# EAGLE library part ATTINY84 (library Eagle3D-IC_Atmel)
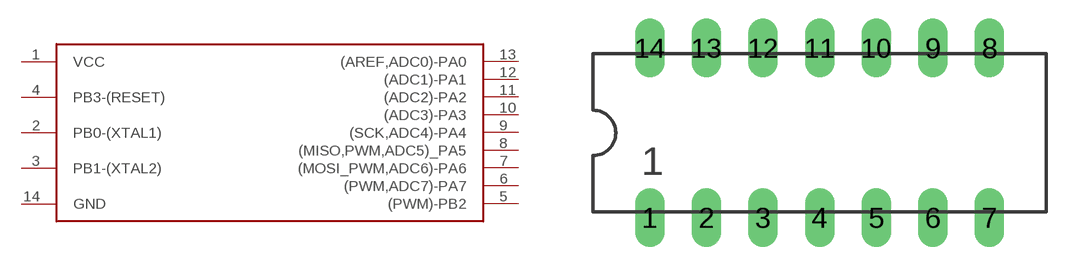
[diagram p1: symbol with the pads of DIL14; footprint DIL14]

Designator prefix IC

## ATTINY84  [DIL14]
1  VCC
2  PB0-(XTAL1)
3  PB1-(XTAL2)
4  PB3-(RESET)
5  (PWM)-PB2
6  (PWM,ADC7)-PA7
7  (MOSI_PWM,ADC6)-PA6
8  (MISO,PWM,ADC5)_PA5
9  (SCK,ADC4)-PA4
10  (ADC3)-PA3
11  (ADC2)-PA2
12  (ADC1)-PA1
13  (AREF,ADC0)-PA0
14  GND

## Footprint DIL14 (pad centres in mm)
drill 0.813 long: 1 -7.62,-3.81; 2 -5.08,-3.81; 3 -2.54,-3.81; 4 0,-3.81; 5 2.54,-3.81; 6 5.08,-3.81; 7 7.62,-3.81; 8 7.62,3.81; 9 5.08,3.81; 10 2.54,3.81; 11 0,3.81; 12 -2.54,3.81; 13 -5.08,3.81; 14 -7.62,3.81